# EAGLE library part 740-124/000-023 (library con-wago_740)
Serie 740, Stand: 01.01.2012. Die jeweils aktuellen Daten zu diesem Artikel finden Sie in unserem Produktkatalog, den Sie unter www.wago.com einsehen können. As of: 01/01/2012. Please find the newest data for this article in our product catalogue, which can be viewed under www.wago.com.
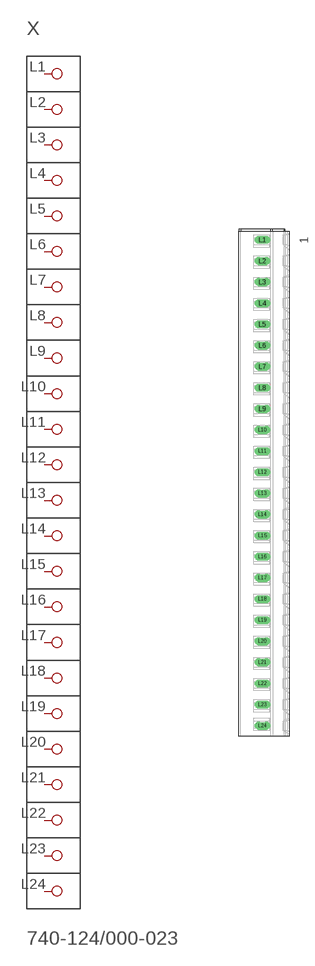
[diagram p39: symbol with the pads of P-740-124; footprint P-740-124]

Designator prefix X

## 740-124/000-023  [P-740-124]
L1  P1
L2  P2
L3  P3
L4  P4
L5  P5
L6  P6
L7  P7
L8  P8
L9  P9
L10  P10
L11  P11
L12  P12
L13  P13
L14  P14
L15  P15
L16  P16
L17  P17
L18  P18
L19  P19
L20  P20
L21  P21
L22  P22
L23  P23
L24  P24

## Footprint P-740-124 (pad centres in mm)
drill 1.3 long: L1 -0.35,57.5; L2 -0.35,52.5; L3 -0.35,47.5; L4 -0.35,42.5; L5 -0.35,37.5; L6 -0.35,32.5; L7 -0.35,27.5; L8 -0.35,22.5; L9 -0.35,17.5; L10 -0.35,12.5; L11 -0.35,7.5; L12 -0.35,2.5; L13 -0.35,-2.5; L14 -0.35,-7.5; L15 -0.35,-12.5; L16 -0.35,-17.5; L17 -0.35,-22.5; L18 -0.35,-27.5; L19 -0.35,-32.5; L20 -0.35,-37.5; L21 -0.35,-42.5; L22 -0.35,-47.5; L23 -0.35,-52.5; L24 -0.35,-57.5